# Altium schematic symbol library IC_THS7314.SchLib: 1 symbol
Pins are listed as number, name and electrical type; pins without a type are passive.

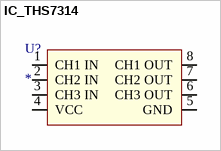
[diagram p0: symbol IC_THS7314]

## IC_THS7314
designator U?
pins: 1 CH1 IN, 2 CH2 IN, 3 CH3 IN, 4 VCC, 5 GND, 6 CH3 OUT, 7 CH2 OUT, 8 CH1 OUT